# Altium schematic symbol library Buck Converter.SchLib: 8 symbols
Pins are listed as number, name and electrical type; pins without a type are passive.

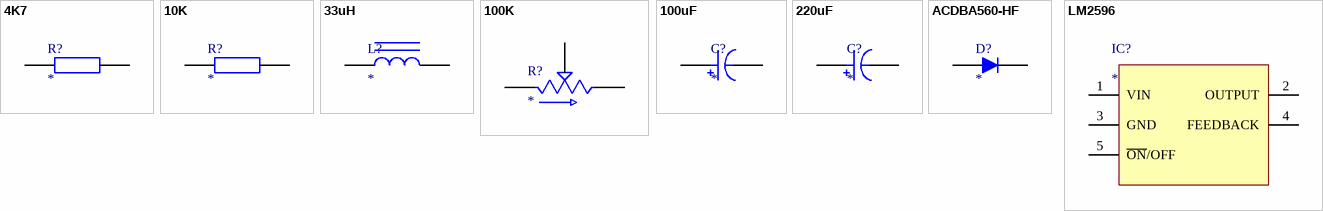
[diagram p0: symbols 4K7 to LM2596]

## 4K7
designator R?
footprint RES-0805
pins: 1, 2

## 10K
designator R?
footprint RES-0805
pins: 1, 2

## 33uH
designator L?
footprint SRR-1280
pins: 1, 2

## 100K
designator R?
footprint 3292W
pins: 1, 2, 3

## 100uF
designator C?
footprint RADIAL-2
pins: 1, 2

## 220uF
designator C?
footprint RADIAL-2
pins: 1, 2

## ACDBA560-HF
designator D?
footprint DO-214
pins: 1, 2

## LM2596
designator IC?
footprint D2PAK
pins: 1 VIN, 2  OUTPUT, 3 GND, 4 FEEDBACK, 5 ~{ON}/OFF